# Altium schematic symbol library 运放PCB原理图库.SchLib: 3 symbols
Pins are listed as number, name and electrical type; pins without a type are passive.

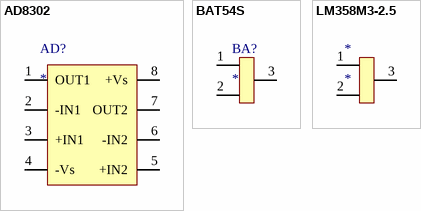
[diagram p0: symbols AD8302 to LM358M3-2.5]

## AD8302
designator AD?
footprint SOIC-8 (封装库来自淘宝卖家 ID：黄晶宝石，其他均为盗版)
pins: 1 OUT1, 2 -IN1, 3 +IN1, 4 -Vs, 5 +IN2, 6 -IN2, 7 OUT2, 8 +Vs

## BAT54S
designator BA?
footprint SOT23 (封装库来自淘宝卖家 ID：黄晶宝石)
pins: 1, 2, 3

## LM358M3-2.5
designator *
footprint SOT23 (封装库来自淘宝卖家 ID：黄晶宝石)
pins: 1, 2, 3